# EAGLE library part LT1236BILS8-5PBF (library SquantorLinearTechnology)
V REF, 40VIN, 5V, 0.1%, 10PPM/C, 8LCC
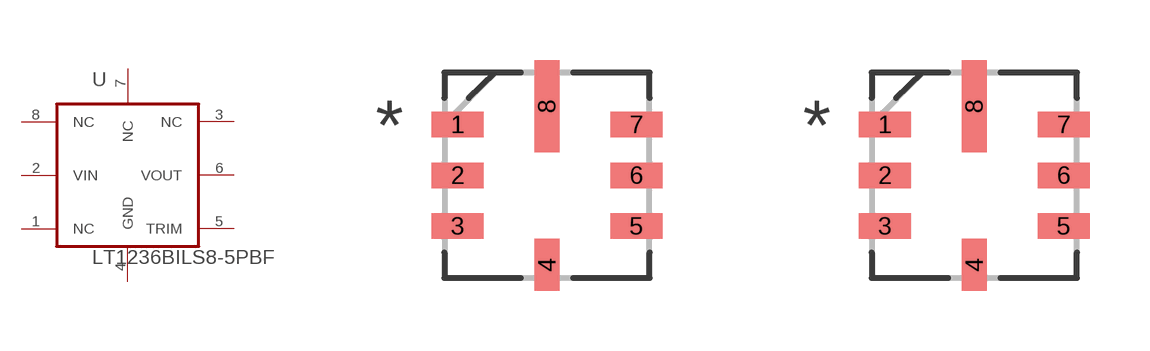
[diagram p0: symbol with the pads of LCC127P500X500X155-8N; footprints LCC127P500X500X155-8N, LS8]

Designator prefix U

## LT1236BILS8-5PBFLCC (MPN: LT1236BILS8-5#PBF; OC_FARNELL: 2215174; OC_NEWARK: 27W9520; PACKAGE: 8LCC; SUPPLIER: LINEAR TECHNOLOGY)  [LCC127P500X500X155-8N]
1  NC  nc
2  VIN  in
3  NC  nc
4  GND  pas
5  TRIM  in
6  VOUT  out
7  NC  nc
8  NC  nc

## LT1236BILS8-5PBFLS8  [LS8]
1  NC  nc
2  VIN  in
3  NC  nc
4  GND  pas
5  TRIM  in
6  VOUT  out
7  NC  nc
8  NC  nc

## LT1236BILS8-5PBFLS8_ELONG  [LS8_ELONG]
Pads as for LS8

## Footprint LCC127P500X500X155-8N (pad centres in mm)
smd 1.295 x 0.635: 1 -2.235,1.27; 2 -2.235,0; 3 -2.235,-1.27; 5 2.235,-1.27; 6 2.235,0; 7 2.235,1.27
smd 0.635 x 1.295: 4 0,-2.235
smd 0.635 x 2.311: 8 0,1.727

## Footprint LS8 (pad centres in mm)
smd 1.295 x 0.635: 1 -2.235,1.27; 2 -2.235,0; 3 -2.235,-1.27; 5 2.235,-1.27; 6 2.235,0; 7 2.235,1.27
smd 0.635 x 1.295: 4 0,-2.235
smd 0.635 x 2.311: 8 0,1.727

## Footprint LS8_ELONG (pad centres in mm)
smd 1.905 x 0.635: 1 -2.54,1.27; 2 -2.54,0; 3 -2.54,-1.27; 5 2.54,-1.27; 6 2.54,0; 7 2.54,1.27
smd 0.635 x 1.905: 4 0,-2.54
smd 0.635 x 2.97: 8 0,2.045